# Altium footprint library CAP_AXIAL_990x240.PcbLib: 1 footprints
Each footprint in its own frame and in the unit in brackets; x right, y up, seen from the top. Pads: shape width x height; smd on the part's side, far side on the other; paste and mask are expansions set on the pad; w line width, h text height; cw(c..) or ccw(c..) is an arc to the next point about the centre after c.
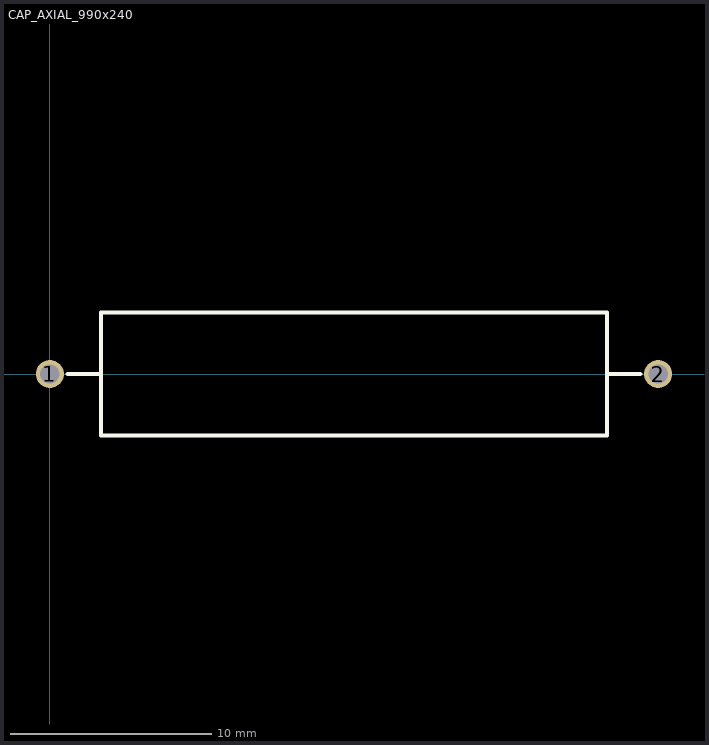
[diagram p0: the footprint, top view; thin cyan lines are the x and y axes]

## CAP_AXIAL_990x240 [mil]
height 390
pads (2):
  round 55 hole 38: 1(0,0) 2(1190,0)
TopOverlay:
  lines w8: 35,0 100,0 ; 1090,0 1155,0 ; 100,-120 100,120 1090,120 1090,-120 100,-120
3D body: height 390, standoff 0, extent 100.02,-119.98 1089.98,119.98